# Altium footprint library T-CONNECT FEMALE.PcbLib: 1 footprints
Each footprint in its own frame and in the unit in brackets; x right, y up, seen from the top. Pads: shape width x height; smd on the part's side, far side on the other; paste and mask are expansions set on the pad; w line width, h text height; cw(c..) or ccw(c..) is an arc to the next point about the centre after c.
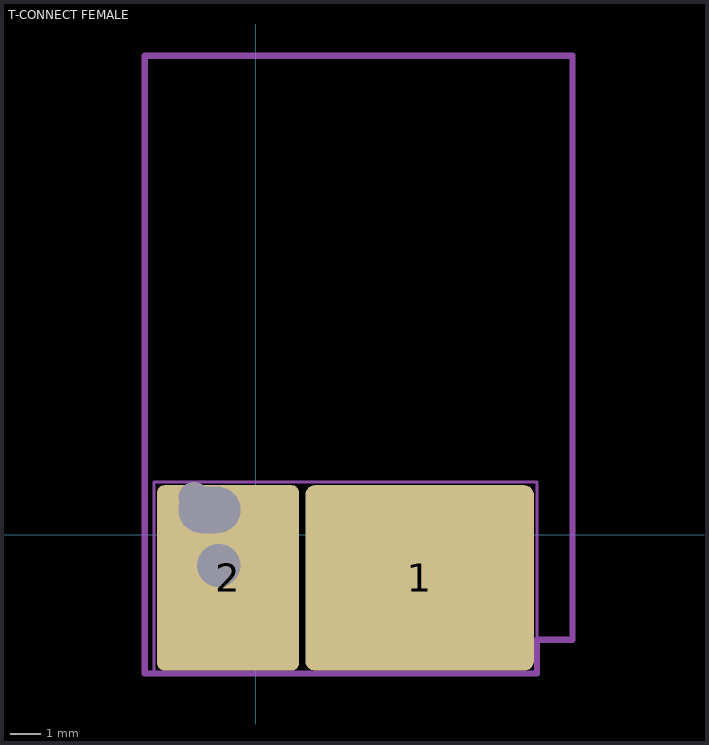
[diagram p0: the footprint, top view; thin cyan lines are the x and y axes]

## T-CONNECT FEMALE [mm]
pads (5):
  rrect10% 7.4x6 smd: 1(5.3,-1.4)
  rrect10% 4.6x6 smd: 2(-0.9,-1.4)
  rrect10% 0x0 hole 2 slot 1.5 at 90 deg: MH0(-1.5,0.8)
  rrect10% 0x0 hole 1.4 square: MH1(-1.2,-1)
  rrect10% 0x0 hole 1 square: MH2(-2,1.2)
Top Courtyard:
  lines w0.1: -3.3,-4.5 -3.3,1.7 9.1,1.7 9.1,-4.5 -3.3,-4.5
Top Assembly:
  lines w0.2: -3.6,-4.5 9.1,-4.5 9.1,-3.4 10.25,-3.4 10.25,15.5 -3.6,15.5 -3.6,-3.4 -3.6,-4.5
3D body "Deans-Female.SLDPRT": height 5.15, standoff -2.35, extent -3.6,-3.3 10.25,22.6